# Altium schematic symbol library CAPPOL-16x25.SchLib: 1 symbol
Pins are listed as number, name and electrical type; pins without a type are passive.

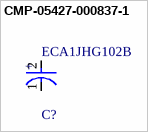
[diagram p0: symbol CMP-05427-000837-1]

## CMP-05427-000837-1
designator C?, comment ECA1JHG102B
Aluminum Electrolytic Capacitors (Radial Lead Type) AEC-Q200 Qualified 1000uF ±20% 63V; Lead Diameter: 0.8mm; Life (Hours): 2000Hour; Lead/Base Style: Straight; Capacitance: 1mF; Ripple Current: 930mA; Series: NHG; Diameter: 16mm; Tolerance: 20%; Max Operating Temperature: 105°C; Packaging: Tape and Reel; Min Operating Temperature: -55°C; Lead Pitch: 7.5mm; Mount: Through Hole; RoHS Compliant: Yes; Radiation Hardening: No; Contact Plating: Tin; Length: 25mm; Height - Seated (Max): 1.063inch; Voltage Rating: 63V; Voltage Rating (DC): 63V; Case/Package: Radial; Height: 25mm; Termination: Radial; Package Quantity: 250
footprint FP-RAD-TH-D_16_0_5-L_25_2-MFG
pins: 1 C, 2 A
text: +